# Altium footprint library Zener.PcbLib: 1 footprints
Each footprint in its own frame and in the unit in brackets; x right, y up, seen from the top. Pads: shape width x height; smd on the part's side, far side on the other; paste and mask are expansions set on the pad; w line width, h text height; cw(c..) or ccw(c..) is an arc to the next point about the centre after c.
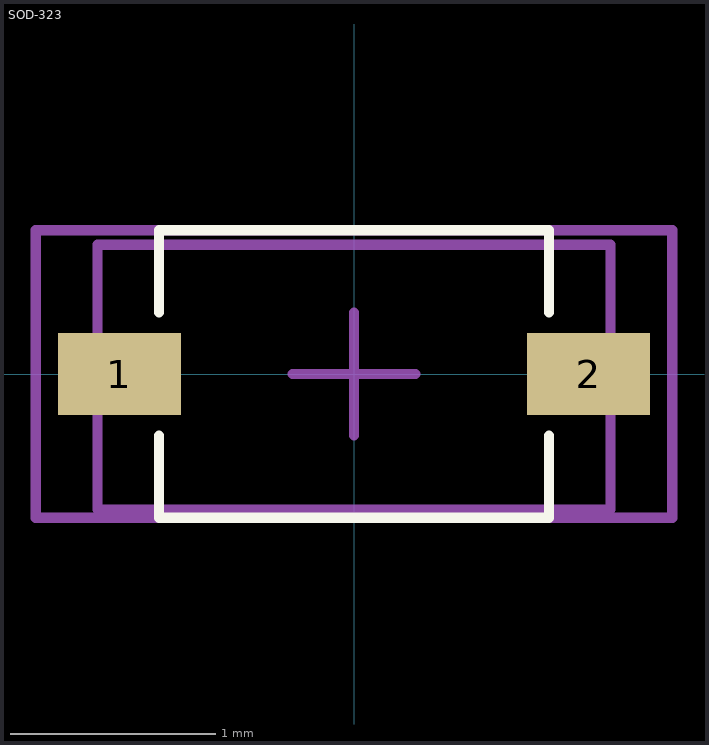
[diagram p0: the footprint, top view; thin cyan lines are the x and y axes]

## SOD-323 [mm] "SOD-323"
pads (2):
  rect 0.6x0.4 smd mask+0.05: 1(-1.143,0) 2(1.143,0)
Top Overlay:
  lines w0.05: -0.95,-0.3 -0.95,-0.7 0.95,-0.7 0.95,-0.3 ; -0.95,0.3 -0.95,0.7 0.95,0.7 0.95,0.3
Top 3D Body:
  lines w0.05: -1.25,-0.66 -1.25,0.63 1.25,0.63 1.25,-0.66 -1.25,-0.66
Top Component Center:
  lines w0.05: -0.3,0 0.3,0 ; 0,-0.3 0,0.3 ; -1.55,-0.7 -1.55,0.7 1.55,0.7 1.55,-0.7 -1.55,-0.7
Top Designator:
  lines w0.05: -1.55,-0.7 1.55,-0.7 1.55,0.7 -1.55,0.7 -1.55,-0.7
  text ".Designator" at -0.25,-0.133 h0.5
3D body "1n4148ws-7-f.stp": height 1.1, standoff 0, extent -1.25,-0.665 1.25,0.635